# Altium schematic symbol library Schlib.SchLib: 12 symbols
Pins are listed as number, name and electrical type; pins without a type are passive.

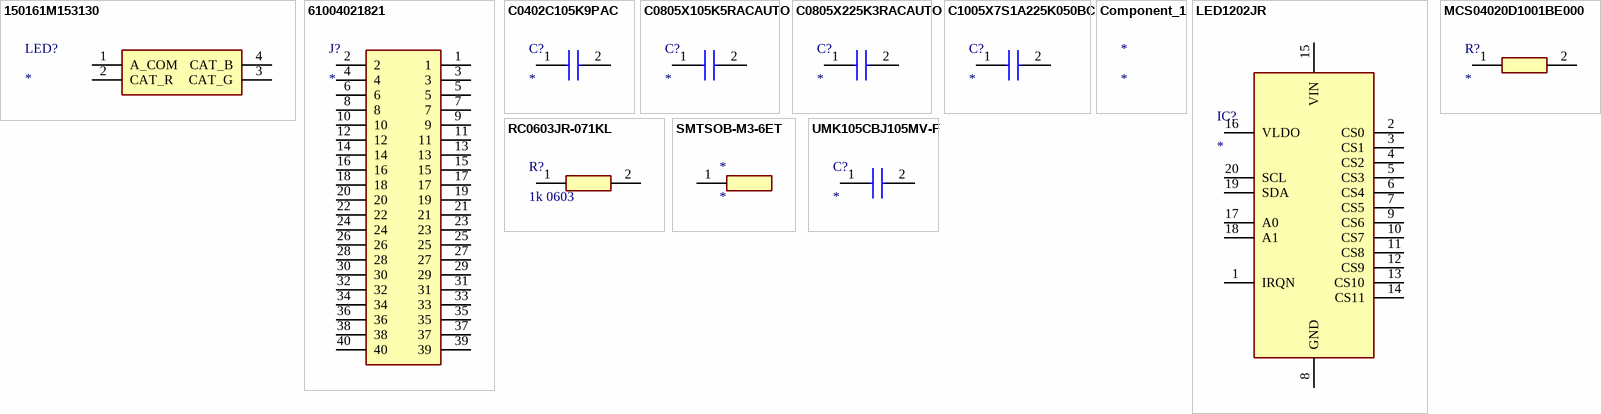
[diagram p0: symbols 150161M153130 to UMK105CBJ105MV-F]

## 150161M153130
designator LED?
LED; Manufacturer_Name: Wurth Elektronik; Manufacturer_Part_Number: 150161M153130; Datasheet Link: https://www.mouser.co.uk/datasheet/2/445/150161M153130-1838821.pdf; Height: 1.7mm; Mouser Part Number: 710-150161M153130; Mouser Price/Stock: https://www.mouser.co.uk/ProductDetail/Wurth-Elektronik/150161M153130?qs=GedFDFLaBXEcD4evLrps3w%3D%3D
footprint 150161M153130
pins: 1 A_COM, 2 CAT_R, 3 CAT_G, 4 CAT_B

## 61004021821
designator J?
Connector; Manufacturer_Name: Wurth Elektronik; Manufacturer_Part_Number: 61004021821; Datasheet Link: https://www.we-online.fr/catalog/datasheet/61004021821.pdf; Height: 7.6mm
footprint 61004021821
pins: 1, 2, 3, 4, 5, 6, 7, 8, 9, 10, 11, 12, 13, 14, 15, 16, 17, 18, 19, 20, 21, 22, 23, 24, 25, 26, 27, 28, 29, 30, 31, 32, 33, 34, 35, 36, 37, 38, 39, 40

## C0402C105K9PAC
designator C?
Capacitor; Manufacturer_Name: KEMET; Manufacturer_Part_Number: C0402C105K9PAC; Datasheet Link: https://content.kemet.com/datasheets/KEM_C1002_X7R_SMD.pdf; Height: 0.55mm; Mouser Part Number: 80-C0402C105K9PAC; Mouser Price/Stock: https://www.mouser.co.uk/ProductDetail/KEMET/C0402C105K9PAC?qs=AHS6Mz2dKxPyNrxaU50ZkQ%3D%3D; Arrow Part Number: C0402C105K9PAC; Arrow Price/Stock: https://www.arrow.com/en/products/c0402c105k9pac/kemet-corporation?region=nac
footprint CAPC1005X55N
pins: 1, 2

## C0805X105K5RACAUTO
designator C?
Capacitor; Manufacturer_Name: KEMET; Manufacturer_Part_Number: C0805X105K5RACAUTO; Datasheet Link: https://content.kemet.com/datasheets/KEM_C1078_X7R_FT-CAP_AUTO_SMD.pdf; Height: 1.45mm; Mouser Part Number: 80-C0805X105K5RAUTO; Mouser Price/Stock: https://www.mouser.co.uk/ProductDetail/KEMET/C0805X105K5RACAUTO?qs=HBWAp0VN4Rg97tWg6%252BgIPg%3D%3D; Arrow Part Number: C0805X105K5RACAUTO; Arrow Price/Stock: https://www.arrow.com/en/products/c0805x105k5racauto/kemet-corporation?region=nac
footprint CAPC2012X145N
pins: 1, 2

## C0805X225K3RACAUTO
designator C?
Capacitor; Manufacturer_Name: KEMET; Manufacturer_Part_Number: C0805X225K3RACAUTO; Datasheet Link: https://content.kemet.com/datasheets/KEM_C1078_X7R_FT-CAP_AUTO_SMD.pdf; Height: 1.4mm; Mouser Part Number: 80-C0805X225K3RAUTO; Mouser Price/Stock: https://www.mouser.co.uk/ProductDetail/KEMET/C0805X225K3RACAUTO?qs=HBWAp0VN4RiOFLf7ztePRQ%3D%3D
footprint CAPC2012X145N
pins: 1, 2

## C1005X7S1A225K050BC
designator C?
2µ2F 0402; Manufacturer_Name: TDK; Manufacturer_Part_Number: C1005X7S1A225K050BC; Datasheet Link: https://product.tdk.com/system/files/dam/doc/product/capacitor/ceramic/mlcc/catalog/mlcc_commercial_general_en.pdf; Height: 0.55mm; Mouser Part Number: 810-C1005X7S1A225K; Mouser Price/Stock: https://www.mouser.co.uk/ProductDetail/TDK/C1005X7S1A225K050BC?qs=dfay7wIA1uFANmjMJAzwOA%3D%3D; Arrow Part Number: C1005X7S1A225K050BC; Arrow Price/Stock: https://www.arrow.com/en/products/c1005x7s1a225k050bc/tdk?region=nac
footprint C1005_Commercial
pins: 1, 2

## Component_1
designator *

## LED1202JR
designator IC?
Integrated Circuit; Manufacturer_Name: STMicroelectronics; Manufacturer_Part_Number: LED1202JR; Datasheet Link: https://componentsearchengine.com/Datasheets/1/LED1202JR.pdf; Height: 0.653mm; Mouser Part Number: 511-LED1202JR; Mouser Price/Stock: https://www.mouser.co.uk/ProductDetail/STMicroelectronics/LED1202JR?qs=P19jvy6W2mcPsIm9dkDZbQ%3D%3D; Arrow Part Number: LED1202JR; Arrow Price/Stock: https://www.arrow.com/en/products/led1202jr/stmicroelectronics?region=nac
footprint QFN20 3x3 (0,5mm pitch)
pins: 1 IRQN, 2 CS0, 3 CS1, 4 CS2, 5 CS3, 6 CS4, 7 CS5, 8 GND, 9 CS6, 10 CS7, 11 CS8, 12 CS9, 13 CS10, 14 CS11, 15 VIN, 16 VLDO, 17 A0, 18 A1, 19 SDA, 20 SCL

## MCS04020D1001BE000
designator R?
Resistor 1k 0402; Manufacturer_Name: Vishay; Manufacturer_Part_Number: MCS04020D1001BE000; Datasheet Link: http://www.vishay.com/docs/28705/mcx0x0xpro.pdf; Height: 0.37mm; Mouser Part Number: 594-MCS04020D1001BE0; Mouser Price/Stock: https://www.mouser.co.uk/ProductDetail/Vishay-Beyschlag/MCS04020D1001BE000?qs=H5EaGE3Pc5m43MFwYZQH1Q%3D%3D
footprint RESC1005X37N
pins: 1, 2

## RC0603JR-071KL
designator R?, comment 1k 0603
Resistor 1k 0603; Manufacturer_Name: KEMET; Manufacturer_Part_Number: RC0603JR-071KL; Datasheet Link: https://datasheet.datasheetarchive.com/originals/distributors/Datasheets_SAMA/902f9e387b938f871d31120f5fc1d65e.pdf; Height: 0.55mm; Mouser Part Number: 603-RC0603JR-071KL; Mouser Price/Stock: https://www.mouser.co.uk/ProductDetail/YAGEO/RC0603JR-071KL?qs=%2F9ZTgpVJnN7bctK4R%2FDEoA%3D%3D; Arrow Part Number: RC0603JR-071KL; Arrow Price/Stock: https://www.arrow.com/en/products/rc0603jr-071kl/yageo?region=europe
footprint RESC1608X55N
pins: 1, 2

## SMTSOB-M3-6ET
designator *
Spacer 8mm
footprint SMTSOB-M3-6ET (Distance M3)
pins: 1

## UMK105CBJ105MV-F
designator C?
1µF 0402; Manufacturer_Name: TAIYO YUDEN; Manufacturer_Part_Number: UMK105CBJ105MV-F; Datasheet Link: https://datasheet.datasheetarchive.com/originals/distributors/DKDS-8/146244.pdf; Height: 0.7mm; Mouser Part Number: 963-UMK105CBJ105MV-F; Mouser Price/Stock: https://www.mouser.co.uk/ProductDetail/Taiyo-Yuden/UMK105CBJ105MV-F?qs=lkMpTOwszhfe5N0wQnb5vQ%3D%3D
footprint CAPC1106X70N
pins: 1, 2